# Altium footprint library PCB2.PcbLib: 38 footprints (part 1 of 3)
Each footprint in its own frame and in the unit in brackets; x right, y up, seen from the top. Pads: shape width x height; smd on the part's side, far side on the other; paste and mask are expansions set on the pad; w line width, h text height; cw(c..) or ccw(c..) is an arc to the next point about the centre after c.
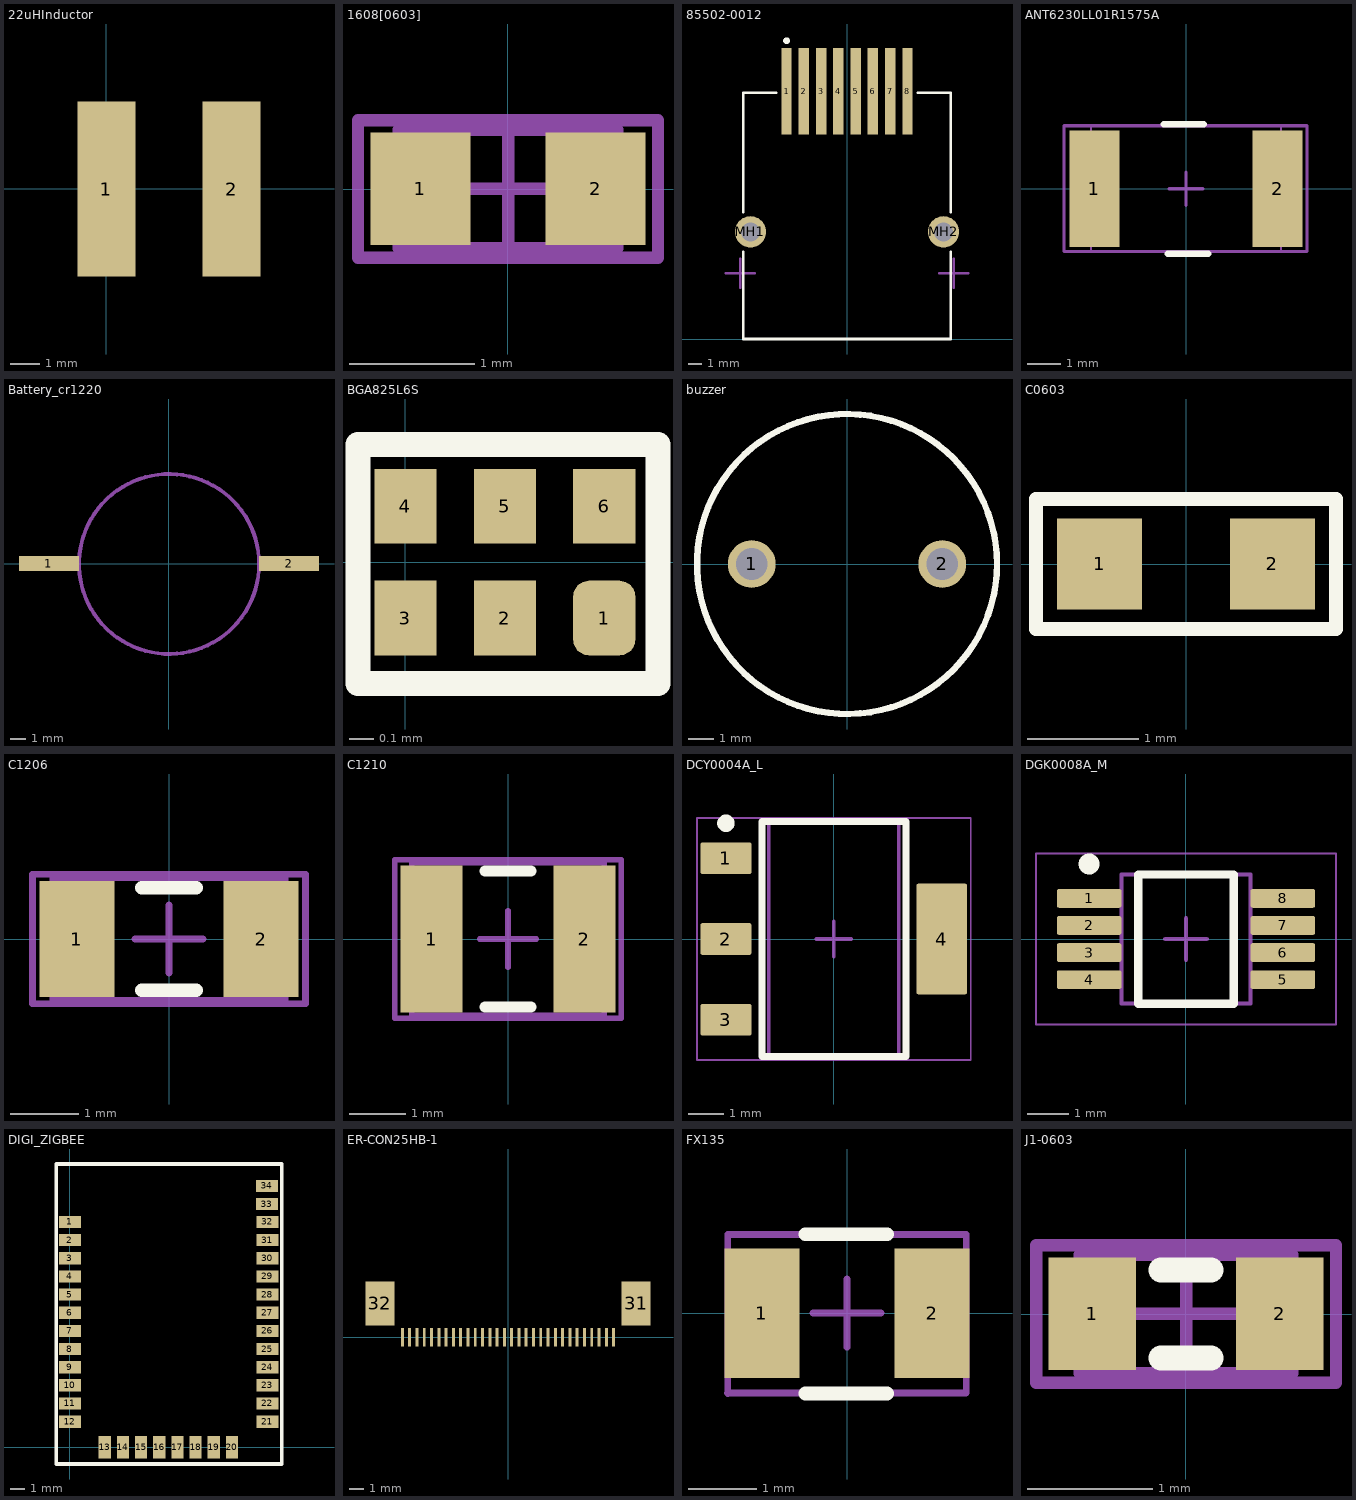
[diagram p0: the footprints below, top view; thin cyan lines are the x and y axes]

## 22uHInductor [mm]
pads (2):
  rect 2x6 smd: 1(0,0) 2(4.3,0)
3D body: height 4.5, standoff 0, extent -1.1,-3.1 5.5,3.1

## 1608[0603] [mm]
pads (2):
  rect 0.8x0.9 smd: 1(-0.7,0) 2(0.7,0)
Mechanical 13:
  lines w0.1: -0.875,-0.475 0.875,-0.475 0.875,0.475 -0.875,0.475 -0.875,-0.475
Mechanical 15:
  lines w0.1: -0.475,0 0.475,0 ; 0,-0.475 0,0.475 ; -1.2,-0.55 1.2,-0.55 1.2,0.55 -1.2,0.55 -1.2,-0.55
3D body: height 1.3, standoff 0, extent -0.875,-0.475 0.875,0.475

## 85502-0012 [mm]
pads (10):
  rect 0.76x6.35 smd: 1(-4.445,18.205) 2(-3.175,18.205) 3(-1.905,18.205) 4(-0.635,18.205) 5(0.635,18.205) 6(1.905,18.205) 7(3.175,18.205) 8(4.445,18.205)
  round 2.3 hole 1.4: MH1(-7.095,7.88) MH2(7.095,7.88)
Top Overlay:
  circle w0.25: c-4.445,21.93 r0.125
  lines w0.2: -7.62,6.422 -7.62,0 7.62,0 7.62,6.422 ; -7.62,9.338 -7.62,18.1 -5.225,18.1 ; 5.225,18.1 7.62,18.1 7.62,9.338
Mechanical 1:
  lines w0.2: -8.9,4.83 -7.85,4.83 ; -7.85,3.78 -7.85,4.83 ; -7.85,5.88 -7.85,4.83 ; -6.8,4.83 -7.85,4.83 ; 6.8,4.83 7.85,4.83 ; 7.85,3.78 7.85,4.83 ; 7.85,5.88 7.85,4.83 ; 8.9,4.83 7.85,4.83

## ANT6230LL01R1575A [mm]
pads (2):
  rect 1.5x3.5 smd: 1(-2.75,0) 2(2.75,0)
Top Overlay:
  lines w0.2: -0.663,1.933 0.537,1.933 ; -0.54,-1.952 0.66,-1.952
Mechanical 13:
  lines w0.1: -3.662,-1.885 3.631,-1.885 3.631,1.892 -3.662,1.892 -3.662,-1.885
Mechanical 15:
  lines w0.05: -2.85,-1.9 2.85,-1.9 2.85,1.9 -2.85,1.9 -2.85,-1.9
  lines w0.1: -0.5,0 0.5,0 ; 0,-0.5 0,0.5
3D body: height 2.7, standoff 0, extent 1.35,-1.35 1.75,1.35
3D body: height 2.7, standoff 0, extent -1.75,-1.35 -1.35,1.35
3D body: height 2.7, standoff 0, extent -1.35,-1.35 1.35,1.35

## Battery_cr1220 [mm]
pads (2):
  rect 4x1 smd: 1(-8,0) 2(8,0)
Mechanical 13:
  circle w0.254: c0.005,-0.021 r6

## BGA825L6S [mm]
pads (6):
  rrect50% 0.25x0.3 smd: 1(0.8,-0.225)
  rect 0.25x0.3 smd: 2(0.4,-0.225) 3(0,-0.225) 4(0,0.225) 5(0.4,0.225) 6(0.8,0.225)
Top Overlay:
  lines w0.1: -0.191,-0.489 -0.191,0.473 1.016,0.473 1.016,-0.489 -0.191,-0.489

## buzzer [mm]
pads (2):
  round 1.905 hole 1.27: 1(-3.81,0) 2(3.81,0)
Top Overlay:
  circle w0.254: c0,0 r6
3D body: height 7, standoff 0, extent -6,-6 6,6

## C0603 [mil]
pads (2):
  rect 30x32 smd: 1(-30.5,0) 2(30.5,0)
Top Overlay:
  lines w5: -53,-23 53,-23 53,23 -53,23 -53,-23
3D body: height 15, standoff 0, extent -30,-15 30,15

## C1206 [mm]
pads (2):
  rect 1.1x1.7 smd: 1(-1.35,0) 2(1.35,0)
Top Overlay:
  lines w0.2: -0.4,-0.75 0.4,-0.75 ; -0.4,0.75 0.4,0.75
Mechanical 13:
  lines w0.1: -1.7,-0.9 -1.7,0.9 1.7,0.9 1.7,-0.9 -1.7,-0.9
Mechanical 15:
  lines w0.1: -0.5,0 0.5,0 ; 0,-0.5 0,0.5 ; -2,-0.95 -2,0.95 2,0.95 2,-0.95 -2,-0.95
3D body: height 1.3, standoff 0, extent -1.7,-0.9 1.7,0.9

## C1210 [mm]
pads (2):
  rect 1.1x2.6 smd: 1(-1.35,0) 2(1.35,0)
Top Overlay:
  lines w0.2: -0.4,-1.2 0.4,-1.2 ; -0.4,1.2 0.4,1.2
Mechanical 13:
  lines w0.1: -1.7,-1.35 -1.7,1.35 1.7,1.35 1.7,-1.35 -1.7,-1.35
Mechanical 15:
  lines w0.1: -0.5,0 0.5,0 ; 0,-0.5 0,0.5 ; -2,-1.4 -2,1.4 2,1.4 2,-1.4 -2,-1.4
3D body: height 1.3, standoff 0, extent -1.7,-1.35 1.7,1.35

## DCY0004A_L [mm]
pads (4):
  rrect11% 1.45x0.9 smd: 1(-3.075,2.3) 2(-3.075,0) 3(-3.075,-2.3)
  rrect7% 1.45x3.15 smd: 4(3.075,0)
Top Overlay:
  circle w0.25: c-3.075,3.3 r0.125
  lines w0.2: -2.05,-3.35 -2.05,3.35 2.05,3.35 2.05,-3.35 -2.05,-3.35
Mechanical 1:
  text ".Designator" at -1.702,-0.152 h0.5
Mechanical 13:
  lines w0.1: -1.85,-3.35 -1.85,3.35 1.85,3.35 1.85,-3.35 -1.85,-3.35
Mechanical 15:
  lines w0.05: -3.9,-3.45 -3.9,3.45 3.9,3.45 3.9,-3.45 -3.9,-3.45
  lines w0.1: -0.5,0 0.5,0 ; 0,-0.5 0,0.5
3D body "SOT-223.stp": height 1.62, standoff -0.03, extent -3.5,-3.25 3.5,3.25

## DGK0008A_M [mm]
pads (8):
  rrect22% 1.55x0.45 smd: 1(-2.325,0.975) 2(-2.325,0.325) 3(-2.325,-0.325) 4(-2.325,-0.975) 5(2.325,-0.975) 6(2.325,-0.325) 7(2.325,0.325) 8(2.325,0.975)
Top Overlay:
  circle w0.25: c-2.325,1.8 r0.125
  lines w0.2: -1.15,-1.55 -1.15,1.55 1.15,1.55 1.15,-1.55 -1.15,-1.55
Mechanical 1:
  text ".Designator" at -3.729,0.949 h0.5
Mechanical 13:
  lines w0.1: -1.55,-1.55 -1.55,1.55 1.55,1.55 1.55,-1.55 -1.55,-1.55
Mechanical 15:
  lines w0.05: -3.6,-2.05 -3.6,2.05 3.6,2.05 3.6,-2.05 -3.6,-2.05
  lines w0.1: -0.5,0 0.5,0 ; 0,-0.5 0,0.5
3D body "MUY08A_ASM.stp": height 0.94, standoff -0.02, extent -2.451,-1.499 2.451,1.499

## DIGI_ZIGBEE [mil]
pads (34):
  rect 60x33 smd: 1(0,608) 2(0,559) 3(0,510) 4(0,461) 5(0,412) 6(0,363) 7(0,314) 8(0,265) 9(0,216) 10(0,167) 11(0,118) 12(0,69) 21(533,69) 22(533,118) 23(533,167) 24(533,216) 25(533,265) 26(533,314) 27(533,363) 28(533,412) 29(533,461) 30(533,510) 31(533,559) 32(533,608) 33(531.67,656.36) 34(531.67,705.36)
  rect 33x60 smd: 13(94,0) 14(143,0) 15(192,0) 16(241,0) 17(290,0) 18(339,0) 19(388,0) 20(437,0)
Top Overlay:
  lines w10: -36.81,-45.33 571.35,-45.33 571.35,764.44 -36.81,764.44 -36.81,-45.33

## ER-CON25HB-1 [mm]
pads (32):
  rect 0.2x1.25 smd: 1(-7.25,0) 2(-6.75,0) 3(-6.25,0) 4(-5.75,0) 5(-5.25,0) 6(-4.75,0) 7(-4.25,0) 8(-3.75,0) 9(-3.25,0) 10(-2.75,0) 11(-2.25,0) 12(-1.75,0) 13(-1.25,0) 14(-0.75,0) 15(-0.25,0) 16(0.25,0) 17(0.75,0) 18(1.25,0) 19(1.75,0) 20(2.25,0) 21(2.75,0) 22(3.25,0) 23(3.75,0) 24(4.25,0) 25(4.75,0) 26(5.25,0) 27(5.75,0) 28(6.25,0) 29(6.75,0) 30(7.25,0)
  rect 2x3 smd: 31(8.8,2.325) 32(-8.8,2.325)

## FX135 [mm]
pads (2):
  rect 1.1x1.9 smd: 1(-1.25,0) 2(1.25,0)
Top Overlay:
  lines w0.2: -0.61,-1.179 0.59,-1.179 ; -0.61,1.158 0.59,1.158
Mechanical 13:
  lines w0.1: -1.754,-1.172 -0.879,-1.172 0.871,-1.172 1.746,-1.172 ; -1.75,-1.183 -1.75,1.154 1.75,1.154 1.75,-1.166
Mechanical 15:
  lines w0.1: -0.5,0 0.5,0 ; 0,-0.5 0,0.5
3D body: height 2.7, standoff 0, extent -1.673,-1.018 1.644,1.006

## J1-0603 [mm]
pads (2):
  rect 0.7x0.9 smd: 1(-0.75,0) 2(0.75,0)
Top Overlay:
  lines w0.2: -0.2,-0.35 0.2,-0.35 ; -0.2,0.35 0.2,0.35
Mechanical 13:
  lines w0.1: -0.85,-0.475 0.85,-0.475 0.85,0.475 -0.85,0.475 -0.85,-0.475
Mechanical 15:
  lines w0.1: -0.475,0 0.475,0 ; 0,-0.475 0,0.475 ; -1.2,-0.55 1.2,-0.55 1.2,0.55 -1.2,0.55 -1.2,-0.55
3D body: height 0.9, standoff 0, extent -0.85,-0.475 0.85,0.475